# EAGLE library part MPU-9250 (library circuit_tree)
IC
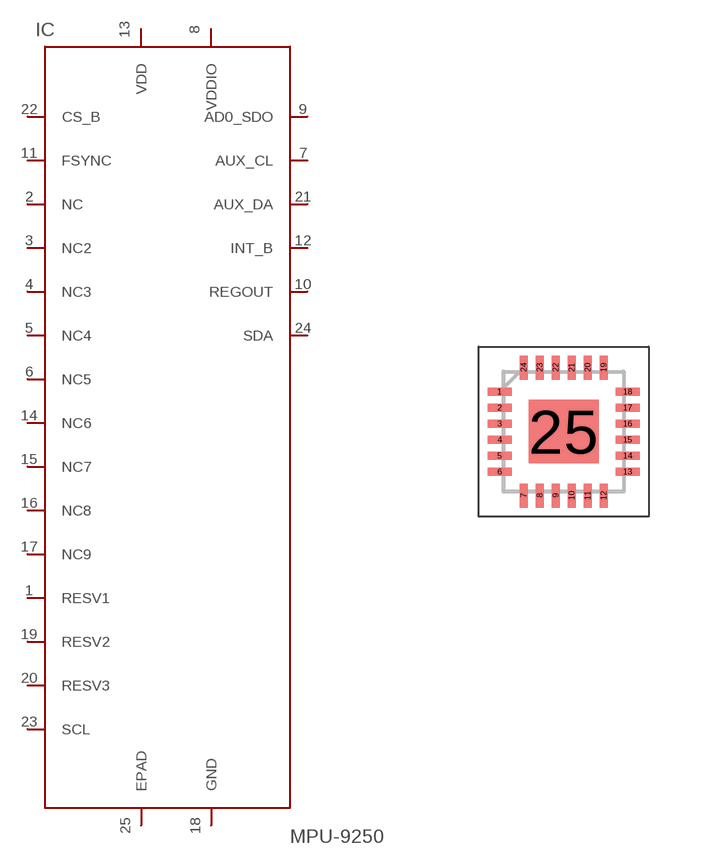
[diagram p6: symbol with the pads of QFN24_2; footprint QFN24_2]

Designator prefix IC

## MPU-9250  [QFN24_2]
1  RESV1  pas
2  NC  pas
3  NC2  pas
4  NC3  pas
5  NC4  pas
6  NC5  pas
7  AUX_CL  pas
8  VDDIO  pas
9  AD0_SDO  pas
10  REGOUT  pas
11  FSYNC  pas
12  INT_B  pas
13  VDD  pas
14  NC6  pas
15  NC7  pas
16  NC8  pas
17  NC9  pas
18  GND  pas
19  RESV2  pas
20  RESV3  pas
21  AUX_DA  pas
22  CS_B  pas
23  SCL  pas
24  SDA  pas
25  EPAD  pas

## Footprint QFN24_2 (pad centres in mm)
smd 0.6 x 0.2: 1 -1.6,1; 2 -1.6,0.6; 3 -1.6,0.2; 4 -1.6,-0.2; 5 -1.6,-0.6; 6 -1.6,-1; 13 1.6,-1; 14 1.6,-0.6; 15 1.6,-0.2; 16 1.6,0.2; 17 1.6,0.6; 18 1.6,1
smd 0.2 x 0.6: 7 -1,-1.6; 8 -0.6,-1.6; 9 -0.2,-1.6; 10 0.2,-1.6; 11 0.6,-1.6; 12 1,-1.6; 19 1,1.6; 20 0.6,1.6; 21 0.2,1.6; 22 -0.2,1.6; 23 -0.6,1.6; 24 -1,1.6
smd 1.75 x 1.59: 25 0,0